# Altium schematic symbol library SI8271.Schlib: 1 symbol
Pins are listed as number, name and electrical type; pins without a type are passive.

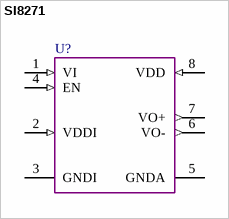
[diagram p0: symbol SI8271]

## SI8271
designator U?  (value not drawn)
pins: 1 VI (in), 2 VDDI (in), 3 GNDI, 4 EN (in), 5 GNDA, 6 VO- (out), 7 VO+ (out), 8 VDD (in)